# Altium schematic symbol library Libreria_Borxo_Sch.SchLib: 26 symbols
Pins are listed as number, name and electrical type; pins without a type are passive.

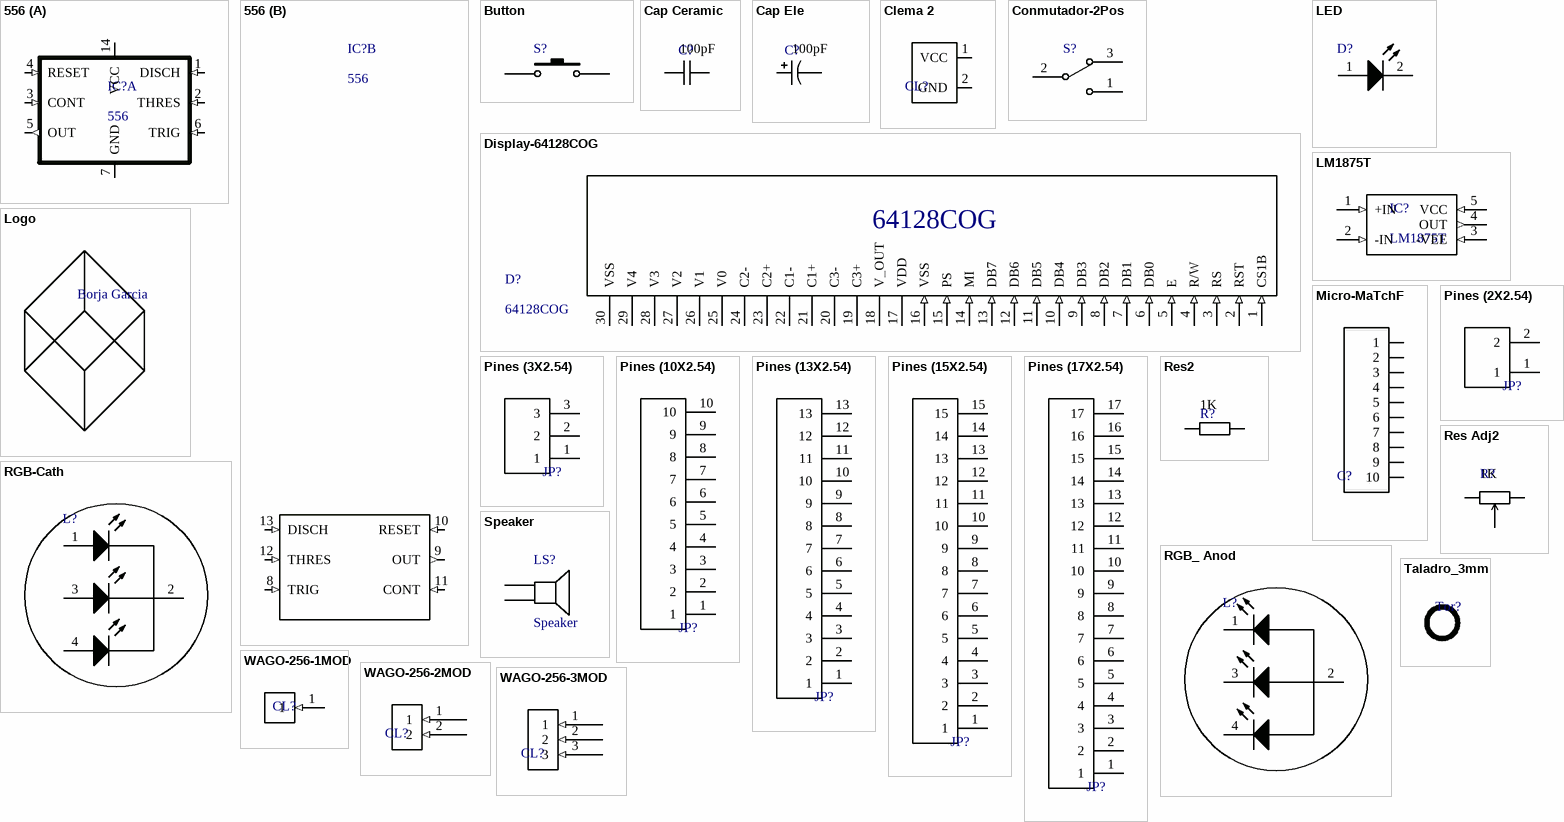
[diagram p0: symbols 556 to WAGO-256-3MOD]

## 556
designator IC?
Autor: Borxo García
footprint DIP-14 (DIP; 14 Leads; Row Spacing 7.62 mm; Pitch 2.54 mm)
part A pins: 1 DISCH (in), 2 THRES (in), 3 CONT (in), 4 RESET (in), 5 OUT (out), 6 TRIG (in), 7 GND (power), 14 VCC (power)
part B pins: 8 TRIG (in), 9 OUT (out), 10 RESET (in), 11 CONT (in), 12 THRES (in), 13 DISCH (in)

## Button
designator S?  (value not drawn)
Autor: Borxo Garcia
footprint Swi_4 (Switch_4Pin)
pins: 1, 2

## Cap Ceramic
designator C?  value 100pF  (hidden comment: Cap Ceramic)
Capacitor; Autor: Borxo García
footprint CAP-CERA-0.1 (Radial Cap, Thru-Hole; 2 Leads; 0.1 in Pin Spacing)
footprint CAP-CERA-0.2-Disc (Radial Cap, Thru-Hole; 2 Leads; 0.2 in Pin Spacing)
footprint CAP-CERA-0.2-Rect (Radial Cap, Thru-Hole; 2 Leads; 0.2 in Pin Spacing)
footprint CAP-CERA-0.3 (Radial Cap, Thru-Hole; 2 Leads; 0.3 in Pin Spacing)
pins: 1, 2

## Cap Ele
designator C?  value 100pF  (hidden comment: Cap Ele)
Polarized Capacitor (Axial); Autor: Borxo Garcia
footprint CAP-ELE-0.1(5X10) (Radial Cap, Thru-Hole; 2 Leads; 0.1 in Pin Spacing)
footprint CAP-ELE-0.1-(5X11) (Radial Cap, Thru-Hole; 2 Leads; 0.1 in Pin Spacing)
footprint CAP-ELE-0.3 (Radial Cap, Thru-Hole; 2 Leads; 0.3 in Pin Spacing)
footprint CAP-ELE-0.2 (Capacitor; 2 Leads;0.2 in Pin Spacing)
footprint CAP-ELE-SMD-(4.3X4.3)
pins: 1, 2
1 alternate drawing of the same symbol

## Clema 2
designator CL?, comment CL2  (value not drawn)
Autor: Borxo García
footprint CON-0.2
pins: 1 VCC, 2 GND

## Conmutador-2Pos
designator S?  (value not drawn)
footprint Conmutador-2Pos (MFP113D-Knitter-Switch)
pins: 1, 2, 3

## Display-64128COG
designator D?, comment 64128COG
footprint Display 64128COG (Display- REF: 64128COG-FA-BC- Amidata)
pins: 1 CS1B (in), 2 RST (in), 3 RS (in), 4 R/W (in), 5 E (in), 6 DB0 (in), 7 DB1 (in), 8 DB2 (in), 9 DB3 (in), 10 DB4 (in), 11 DB5 (in), 12 DB6 (in), 13 DB7 (in), 14 MI (in), 15 PS (in), 16 VSS (in), 17 VDD, 18 V_OUT, 19 C3+, 20 C3-, 21 C1+, 22 C1-, 23 C2+, 24 C2-, 25 V0, 26 V1, 27 V2, 28 V3, 29 V4, 30 VSS

## LED
designator D?
Typical BLUE SiC LED
footprint Led 5mm
pins: 1 A, 2 K

## LM1875T
designator IC?
footprint LM1875T (Amplificador-Texas Intrument-20W)
pins: 1 +IN (in), 2 -IN (in), 3 -VEE (in), 4 OUT (out), 5 VCC (in)

## Logo
designator Borja Garcia, comment Borja Garcia  (value not drawn)
Logo
footprint Logo Borja

## Micro-MaTchF
designator C?
Micro-MaTch Famale 1.27mm T/Hole
footprint Micro-MaTch Famale 1.27mm/SMD
footprint Micro-MaTch Famale 1.27mm/ Hole (TE Connection)
pins: 1, 2, 3, 4, 5, 6, 7, 8, 9, 10

## Pines (2X2.54)
designator JP?, comment JP  (value not drawn)
footprint Pin(2X2.54mm) (Tira de Pines Macho)
pins: 1, 2

## Pines (3X2.54)
designator JP?  (value not drawn)
footprint Pin(3X2.54mm) (Tira de Pines Macho)
pins: 1, 2, 3

## Pines (10X2.54)
designator JP?  (value not drawn)
footprint Pin(10X2.54mm) (Tira de Pines Macho)
pins: 1, 2, 3, 4, 5, 6, 7, 8, 9, 10

## Pines (13X2.54)
designator JP?  (value not drawn)
footprint Pin(13X2.54mm) (Tira de Pines Macho)
pins: 1, 2, 3, 4, 5, 6, 7, 8, 9, 10, 11, 12, 13

## Pines (15X2.54)
designator JP?  (value not drawn)
footprint Pin(15X2.54mm) (Tira de Pines Macho)
pins: 1, 2, 3, 4, 5, 6, 7, 8, 9, 10, 11, 12, 13, 14, 15

## Pines (17X2.54)
designator JP?  (value not drawn)
footprint Pin(17X2.54mm) (Tira de Pines Macho)
pins: 1, 2, 3, 4, 5, 6, 7, 8, 9, 10, 11, 12, 13, 14, 15, 16, 17

## Res2
designator R?, comment value 1K  (hidden comment: Res)
Resistor; Autor: Borxo García
footprint RES-AXIAL-0.5 (Axial Device, Thru-Hole; 2 Leads; 0.5 in Pin Spacing)
footprint RES-AXIAL-0.4 (Axial Device, Thru-Hole; 2 Leads; 0.4 in Pin Spacing)
footprint 1206 (3216)
pins: 1, 2

## Res Adj2
designator R?, comment value 1K  (hidden comment: Res Ajus)
Variable Resistor; Autor: Borxo Garcia
footprint RES-AJUS
pins: 1, 2, 3

## RGB-Cath
designator L?
Typical BLUE SiC LED
footprint Led 5mm - RGB
pins: 1 A, 2 K, 3 A, 4 A

## RGB_ Anod
designator L?
Typical BLUE SiC LED
footprint Led 5mm - RGB
pins: 1 A, 2 K, 3 A, 4 A

## Speaker
designator LS?
Loudspeaker; Autor: Borxo García
footprint SPEAK-0.3 (Photosensitive Diode; 0.3 in Pin Spacing)
pins: 1, 2

## Taladro_3mm
designator Tor?, comment Tornillo3MM  (value not drawn)
footprint Taladro_3mm

## WAGO-256-1MOD
designator CL?, comment CL-1Block  (value not drawn)
footprint Wago-256-1Mod (Clema-Modelo 256-401- 1 Modulo)
pins: 1 (in)

## WAGO-256-2MOD
designator CL?, comment CL-2Block  (value not drawn)
footprint Wago-256-2Mod (Clema-Modelo 256-401- 2 Modulo)
pins: 1 (in), 2 (in)

## WAGO-256-3MOD
designator CL?, comment CL-3Block  (value not drawn)
footprint Wago-256-3Mod (Clema-Modelo 256-401- 3 Modulo)
pins: 1 (in), 2 (in), 3 (in)